# Altium schematic symbol library SCH - CONNECTORS - 4 PIN.SCHLIB: 1 symbol
Pins are listed as number, name and electrical type; pins without a type are passive.

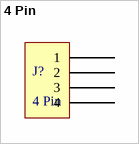
[diagram p0: symbol 4 Pin]

## 4 Pin
designator J?
footprint FCI 06-381-4PIN (FCI Pluggable Terminal Block)
pins: 1, 2, 3, 4